# Altium schematic symbol library TM8211.SchLib: 1 symbol
Pins are listed as number, name and electrical type; pins without a type are passive.

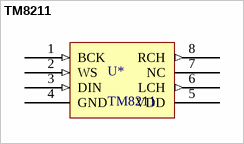
[diagram p0: symbol TM8211]

## TM8211
designator U*
footprint TM8211 (16-Bit SOP-8_150mil Digital To Analog Converter (DAC))
pins: 1 BCK (in), 2 WS (in), 3 DIN (in), 4 GND, 5 VDD (power), 6 LCH (out), 7 NC (oc), 8 RCH (out)